# EAGLE library part WE-FLEX_ER11/5 (library Eagle_WE-FLEX (rev24a))
WE-FLEX Flexible Transformer for DC/DC Converter Characteristics Transformer with 6 identical windings 4 sizes with 5 different lengths of air gap each Isolation voltage 500 VDC Low leakage inductance Operating temperature: –40 ºC to +125 ºC By using different circuits more than 375 transformer solutions and about 125 choke solutions possible. Consequently, quick prototyping possibilities Applications All kind of switching regulators - Flyback converters - Forward converters - Push-pull converters - Step-up/step-down converters - SEPIC converter <https://www.we-online.com/components/media/o14787v209%20Family_WE-FLEX.jpg> Details see: www.we-online.com/en/components/products/WE-FLEX <www.we-online.com/catalog/WE-FLEX/?utm_source=eagle_model&utm_medium=description_link&utm_campaign=eisos_eagle> Updated by Ella 2024-09-27 2024 (C) Wurth Elektronik
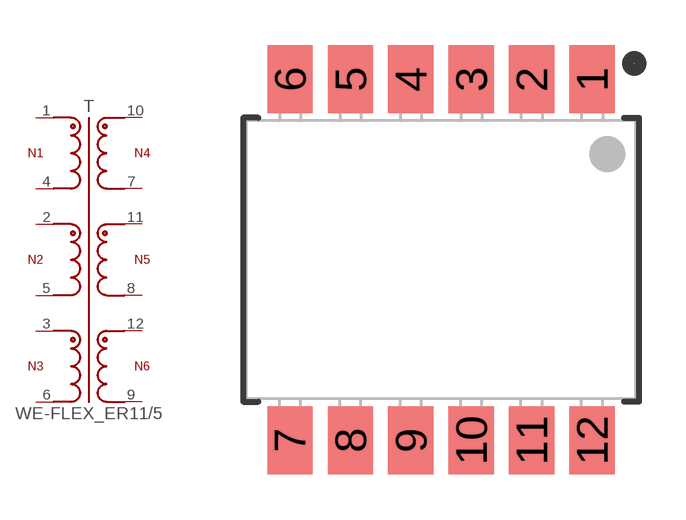
[diagram p1: symbol with the pads of WE-FLEX_ER11/5; footprint WE-FLEX_ER11/5]

Designator prefix T

## WE-FLEX_ER11/5_749196101 (DATASHEET-URL: https://www.we-online.com/redexpert/spec/749196101?ae; HEIGHT: 6.2mm; IRBASE: 0.55A; ISATBASE: 0.01A; LENGTH: 12.9mm; LSBASE: 1.2uH; N: 1:1:1:1:1:1; PART-NUMBER: 749196101; RDCBASE: 344mOhm; SIZE: ER11/5; TYPE: ungapped; VALUE: 198.6uH; VOLTAGE-USECONDBASE: 32.9uVs; VT: 500V (AC); WIDTH: 13mm), WE-FLEX_ER11/5_749196111 (DATASHEET-URL: https://www.we-online.com/redexpert/spec/749196111?ae; HEIGHT: 6.2mm; IRBASE: 0.55A; ISATBASE: 0.22A; LENGTH: 12.9mm; LSBASE: 1.2uH; N: 1:1:1:1:1:1; PART-NUMBER: 749196111; RDCBASE: 344mOhm; SIZE: ER11/5; TYPE: gapped; VALUE: 27.4uH; VOLTAGE-USECONDBASE: 32.9uVs; VT: 500V (AC); WIDTH: 13mm), WE-FLEX_ER11/5_749196121 (DATASHEET-URL: https://www.we-online.com/redexpert/spec/749196121?ae; HEIGHT: 6.2mm; IRBASE: 0.55A; ISATBASE: 0.54A; LENGTH: 12.9mm; LSBASE: 1.2uH; N: 1:1:1:1:1:1; PART-NUMBER: 749196121; RDCBASE: 344mOhm; SIZE: ER11/5; TYPE: gapped; VALUE: 14.7uH; VOLTAGE-USECONDBASE: 32.9uVs; VT: 500V (AC); WIDTH: 13mm), WE-FLEX_ER11/5_749196131 (DATASHEET-URL: https://www.we-online.com/redexpert/spec/749196131?ae; HEIGHT: 6.2mm; IRBASE: 0.55A; ISATBASE: 0.73A; LENGTH: 12.9mm; LSBASE: 1.2uH; N: 1:1:1:1:1:1; PART-NUMBER: 749196131; RDCBASE: 344mOhm; SIZE: ER11/5; TYPE: gapped; VALUE: 10.9uH; VOLTAGE-USECONDBASE: 32.9uVs; VT: 500V (AC); WIDTH: 13mm), WE-FLEX_ER11/5_749196141 (DATASHEET-URL: https://www.we-online.com/redexpert/spec/749196141?ae; HEIGHT: 6.2mm; IRBASE: 0.55A; ISATBASE: 0.96A; LENGTH: 12.9mm; LSBASE: 1.2uH; N: 1:1:1:1:1:1; PART-NUMBER: 749196141; RDCBASE: 344mOhm; SIZE: ER11/5; TYPE: gapped; VALUE: 8.5uH; VOLTAGE-USECONDBASE: 32.9uVs; VT: 500V (AC); WIDTH: 13mm)  [WE-FLEX_ER11/5]
1  1  pas
2  2  pas
3  3  pas
4  4  pas
5  5  pas
6  6  pas
7  7  pas
8  8  pas
9  9  pas
10  10  pas
11  11  pas
12  12  pas

## Footprint WE-FLEX_ER11/5 (pad centres in mm)
WE-FLEX Flexible Transformer for DC/DC Converter Size: ER11/5 SMT 12pins LXWXH=12.9X13X6.2mm
smd 1.5 x 2.25: 1 5,5.975; 2 3,5.975; 3 1,5.975; 4 -1,5.975; 5 -3,5.975; 6 -5,5.975; 7 -5,-5.975; 8 -3,-5.975; 9 -1,-5.975; 10 1,-5.975; 11 3,-5.975; 12 5,-5.975